# EAGLE library part SI-52003-F (library 1484203861886-plan44)
Ethernet Connector MagJack (R) Source: www.stewartconnector.com .. si-50170.pdf
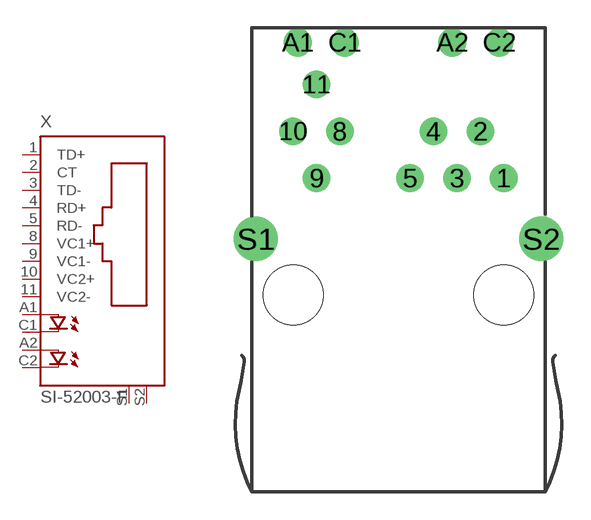
[diagram p2: symbol with the pads of SI-52003-F; footprint SI-52003-F]

Designator prefix X

## SI-52003-F (OC_FARNELL: unknown; OC_NEWARK: unknown)  [SI-52003-F]
1  TD+  pas
2  CT  pas
3  TD-  pas
4  RD+  pas
5  RD-  pas
8  VC1+  pas
9  VC1-  pas
10  VC2+  pas
11  VC2-
A1  A1  pas
A2  A2  pas
C1  C1  pas
C2  C2  pas
S1  S1  pas
S2  S2  pas

## Footprint SI-52003-F (pad centres in mm)
Ethernet Connector (MagJack) for PoE Bel Stewart SI50177
drill 0.9 pad 1.5: 1 5.715,3.302; 2 4.445,5.842; 3 3.175,3.302; 4 1.905,5.842; 5 0.635,3.302; 8 -3.175,5.842; 9 -4.445,3.302; 10 -5.715,5.842; 11 -4.445,8.382
drill 1.016 pad 1.5: A1 -5.461,10.668; A2 2.921,10.668; C1 -2.921,10.668; C2 5.461,10.668
drill 1.6 pad 2.2: S1 -7.747,0; S2 7.747,0
hole 3.251 at -5.715,-3.048
hole 3.251 at 5.715,-3.048